# Altium schematic symbol library PGA103+.Schlib: 1 symbol
Pins are listed as number, name and electrical type; pins without a type are passive.

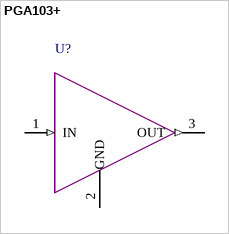
[diagram p0: symbol PGA103+]

## PGA103+
designator U?  (value not drawn)
pins: 1 IN (in), 2 GND (power), 3 OUT (out)